# EAGLE library part TLC5952 (library Parts)
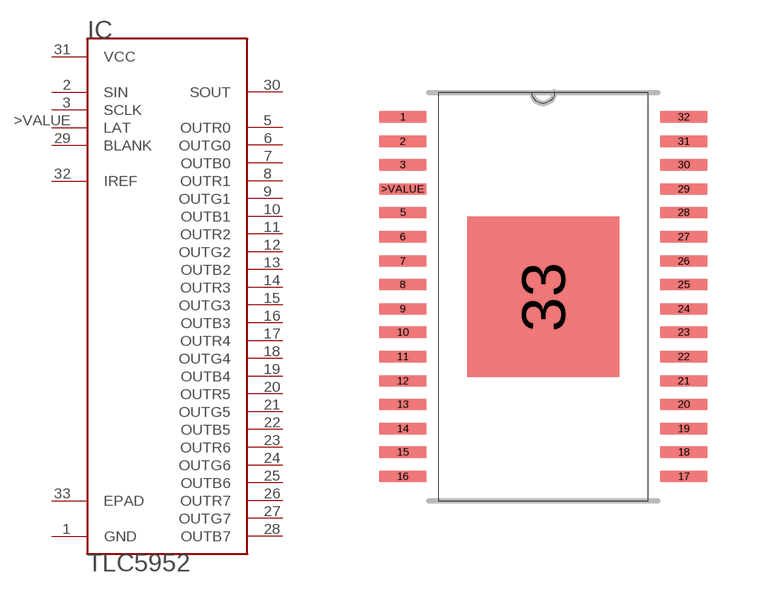
[diagram p3: symbol with the pads of HTSSOP-32POWERPAD; footprint HTSSOP-32POWERPAD]

Designator prefix IC

## TLC5952 (MPN: TLC5952DAP)  [HTSSOP-32POWERPAD]
1  GND  pwr
2  SIN  in
3  SCLK  in
5  OUTR0  out
6  OUTG0  out
7  OUTB0  out
8  OUTR1  out
9  OUTG1  out
10  OUTB1  out
11  OUTR2  out
12  OUTG2  out
13  OUTB2  out
14  OUTR3  out
15  OUTG3  out
16  OUTB3  out
17  OUTR4  out
18  OUTG4  out
19  OUTB4  out
20  OUTR5  out
21  OUTG5  out
22  OUTB5  out
23  OUTR6  out
24  OUTG6  out
25  OUTB6  out
26  OUTR7  out
27  OUTG7  out
28  OUTB7  out
29  BLANK  in
30  SOUT  out
31  VCC  pwr
32  IREF  in
33  EPAD
>VALUE  LAT  in

## Footprint HTSSOP-32POWERPAD (pad centres in mm)
smd 1.27 x 0.305: 1 -3.81,4.877; 2 -3.81,4.216; 3 -3.81,3.581; 5 -3.81,2.286; 6 -3.81,1.626; 7 -3.81,0.965; 8 -3.81,0.33; 9 -3.81,-0.33; 10 -3.81,-0.965; 11 -3.81,-1.626; 12 -3.81,-2.286; 13 -3.81,-2.921; 14 -3.81,-3.581; 15 -3.81,-4.216; 16 -3.81,-4.877; 17 3.81,-4.877; 18 3.81,-4.216; 19 3.81,-3.581; 20 3.81,-2.921; 21 3.81,-2.286; 22 3.81,-1.626; 23 3.81,-0.965; 24 3.81,-0.33; 25 3.81,0.33; 26 3.81,0.965; 27 3.81,1.626; 28 3.81,2.286; 29 3.81,2.921; 30 3.81,3.581; 31 3.81,4.216; 32 3.81,4.877; >VALUE -3.81,2.921
smd 4.11 x 4.36: 33 0,0